# Altium schematic symbol library GAGHL_ALTIUM_LIBRARY_Schematic.SchLib: 27 symbols
Pins are listed as number, name and electrical type; pins without a type are passive.

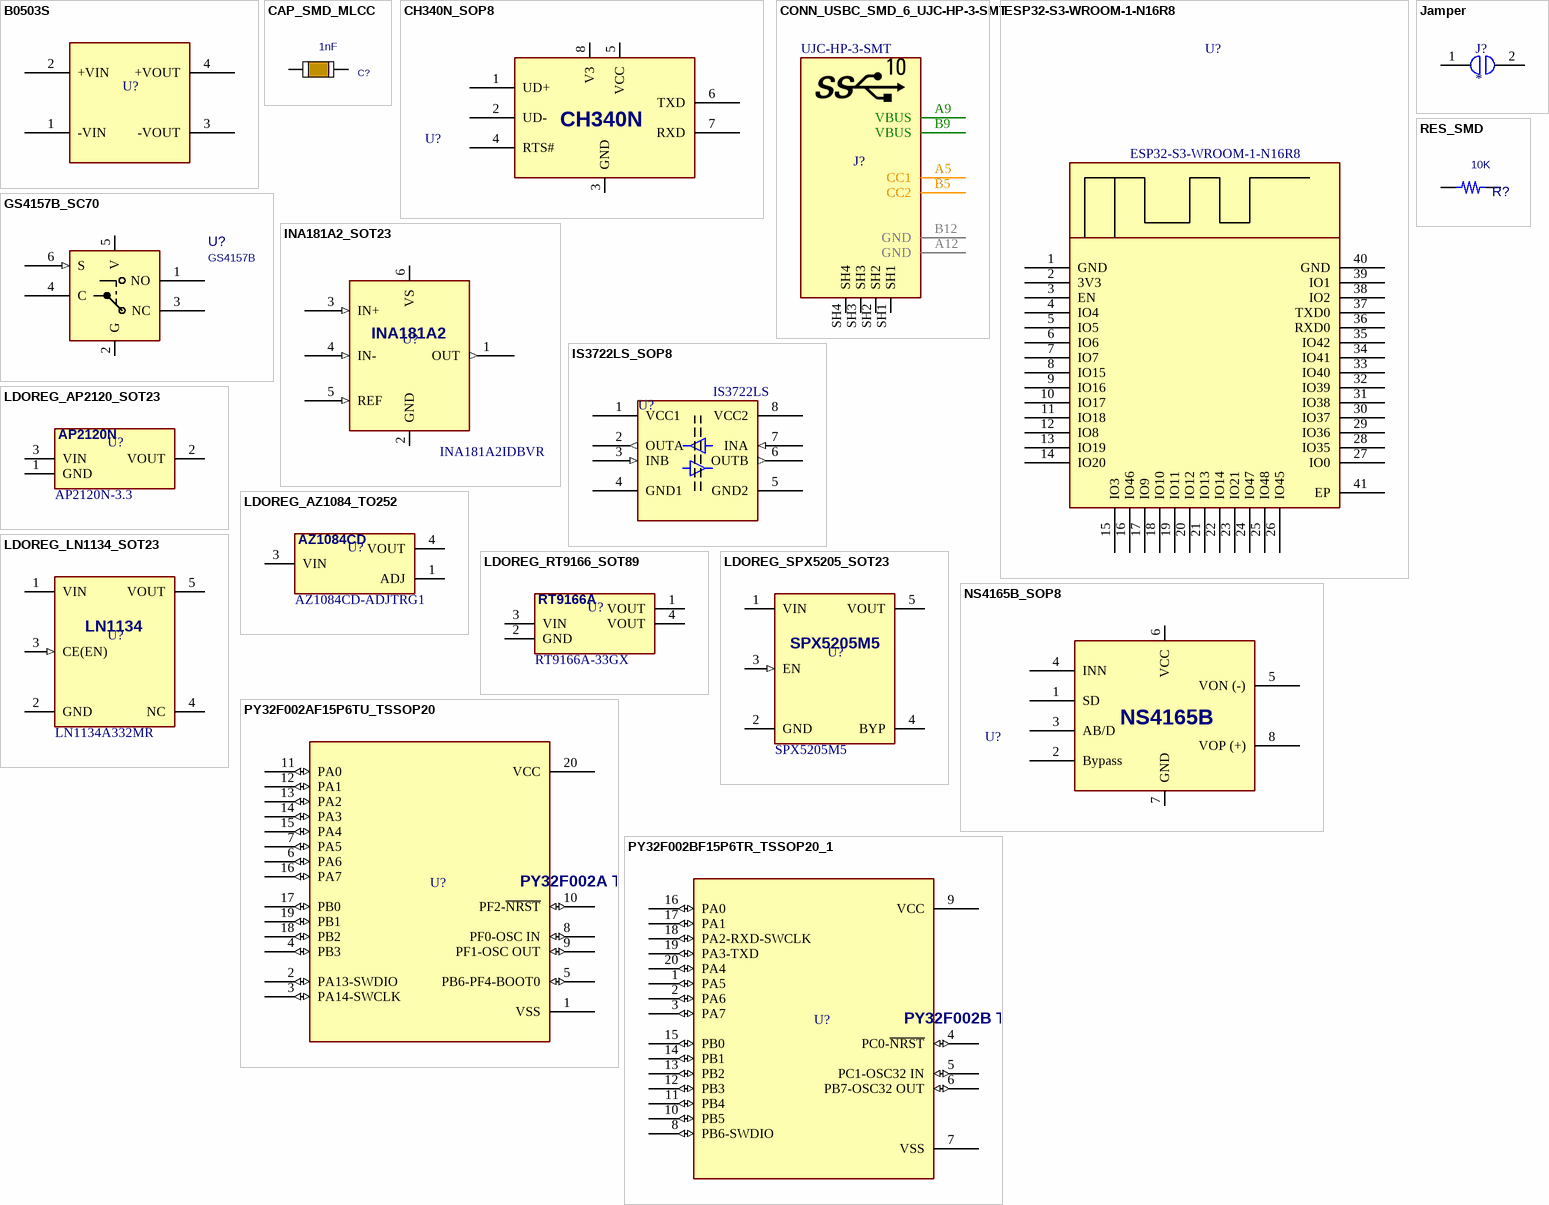
[diagram p0: symbols B0503S to RES_SMD]

## B0503S
designator U?  (value not drawn)
DC-DC Converter, Isolated, 1W; MANF: HI-LINK; MANF_P#: B0503S-1WR2; PARAM2: 4.5~5.5(5)Vin, 3.3Vout, 1W; PARAM: 303mA, -40~85°C; DESC: https://lionelectronic.ir/uploads/catalog/B0503S-1WR2-HI-LINK.pdf; VALUE: B0503S
footprint B0503S
pins: 1 -VIN, 2 +VIN, 3 -VOUT, 4 +VOUT

## CAP_SMD_MLCC
designator C?, comment 1nF
CAP, MLCC; PARAM2: 50V; DESC: CAP, MLCC, 1nF, 50V, C0G, 10%, 0402; MANF_P#: MANF_PART#; MANF: Murata; PARAM: C0G, 10%; ASSEMBLY: ASSEMBLY; PRICE: 100= 1$; VALUE: 1nF
footprint C0402 (CHIP Capacitor, 1.0X0.5mm, 0402)
footprint C0603 (CHIP Capacitor, 1.6X0.8mm, 0603)
footprint C0805 (CHIP Capacitor, 2.0X1.3mm, 0805)
footprint C1206 (CHIP Capacitor, 3.2X1.6mm, 1206)
footprint C1210 (CHIP Capacitor, 3.2X2.5mm, 1210, 3225)
footprint C0508 (CHIP Capacitor, 1.3X2.0mm, 0508)
footprint C1020 (CHIP Capacitor, 2.50x5.00mm)
footprint C1808 (CHIP Capacitor, 4.6X2.0mm, 1808, 1806, 4620, 4520)
footprint C1812 (Chip Capacitor, 4.5x3.2mm, 1612, 1812, 4532)
footprint C1825 (Chip Capacitor, 4.5x6.4mm, 1825, 4564)
footprint C2225 (Chip Capacitor, 5.6x6.4mm, 2225, 5664)
footprint C2512 (Chip Capacitor, 6.4x3.2mm, 2512, 6432)
footprint C0201 (CHIP Capacitor, 0.5x0.25mm, 0201)
footprint C0306 (CHIP Capacitor, 0.8X1.6mm)
footprint C0204 (CHIP Capacitor, 0.5X1.0mm)
footprint C2010 (Chip Capacitor, 5.0x2.5mm)
footprint C0603D (CHIP Capacitor, 1.6X0.8mm, 0603 , SMD (SolderMask Defined))
footprint C0805D (CHIP Capacitor, 2.0X1.3mm, 0805, SMD (SolderMask Defined))
pins: 1, 2

## CH340N_SOP8
designator U?, comment CH340N  (value not drawn)
USB-UART; MANF_P#: CH340N; VALUE: CH340N; PACKAGE: SOP-8
footprint SO_8 (SOP-8, 5x3.9mm body 1.27mm pitch, SOT96-1, M08A, S8, SOIC8, VO8, MS-012AA(JEDEC), R-8, 8S2, VOG8)
pins: 1 UD+, 2 UD-, 3 GND, 4 RTS#, 5 VCC, 6 TXD, 7 RXD, 8 V3

## CONN_USBC_SMD_6_UJC-HP-3-SMT
designator J?, comment UJC-HP-3-SMT
CONN, USB, Type C (USB 3.1), Right-Angle, SMD; MANF: CUI Devices; PARAM2: 20v; PARAM: Power Only, 3A; Price: 0.8$; MANF_P#: UJC-HP-3-SMT; Value: UJC-HP-3-SMT
footprint USBC_SMD_6_UJCHP3SMT (CONN, USB, Type C, UJC-HP-3-SMT, popular*)
pins: A5 CC1, A9 VBUS, A12 GND, B5 CC2, B9 VBUS, B12 GND, SH1, SH2, SH3, SH4

## ESP32-S3-WROOM-1-N16R8
designator U?
WiFi with Bluetooth 4.0; MANF_P#: ESP32-S3-WROOM-1-N16R8; VALUE: ESP32-S3-WROOM-1-N16R8
footprint ESP32-S3-WROOM-1-N16R2
pins: 1 GND, 2 3V3, 3 EN, 4 IO4, 5 IO5, 6 IO6, 7 IO7, 8 IO15, 9 IO16, 10 IO17, 11 IO18, 12 IO8, 13 IO19, 14 IO20, 15 IO3, 16 IO46, 17 IO9, 18 IO10, 19 IO11, 20 IO12, 21 IO13, 22 IO14, 23 IO21, 24 IO47, 25 IO48, 26 IO45, 27 IO0, 28 IO35, 29 IO36, 30 IO37, 31 IO38, 32 IO39, 33 IO40, 34 IO41, 35 IO42, 36 RXD0, 37 TXD0, 38 IO2, 39 IO1, 40 GND, 41 EP

## GS4157B_SC70
designator U?, comment GS4157B
IC, SWITCH, Analog, SPDT, SC-70-6; MANF: GainSil; PARAM2: 1.8~5.5V, 80MHz BW; PARAM: 0.8Ohm Ron, 28ns, -40~125C; MANF_P#: GS4157B; PRICE: 0.05$; PACKAGE: SC70-5; VALUE: GS4157B
footprint SOT363_6 (SOT-363, SC-70_6, BFS483, SC-88, MO-203AB, DSO65_6_200X130)
pins: 1 NO, 2 G, 3 NC, 4 C, 5 V, 6 S (in)

## INA181A2_SOT23
designator U?, comment INA181A2IDBVR
Current Sense Amplifiers 100uV 75uA SOT-23-6; MANF: Texas Instruments; PARAM: 100uV, 75uA, -40~145oC; PARAM2: x50; MANF_P#: INA181A2IDBVR; VALUE: INA181A2IDBVR
footprint SOT23_6 (SOT-23-6, DDC, DBV, MICRO6, SOT-26, SOT457, SuperSOT6, TSOP-6, HMC313, TSOT, 1.5x3mm, Pitch 0.65mm, CA531, MO-178AB, MO-193AA)
pins: 1 OUT (out), 2 GND (power), 3 IN+ (in), 4 IN- (in), 5 REF (in), 6 VS (power)
text: INA181A2

## IS3722LS_SOP8
designator U?, comment IS3722LS
Isolators, Dual, Low-Power, 150Mbps; MANF: Chipanalog; MANF_P#: CA-IS3722LS; PARAM2: 3.3/5VCC, 9ns Tpd, 300ps Skew; PARAM: 2.5KVrms Isolation, -40~105°C; PRICE: 3$; VALUE: IS3722LS
footprint SO_8
pins: 1 VCC1 (power), 2 OUTA (out), 3 INB (in), 4 GND1 (power), 5 GND2 (power), 6 OUTB (out), 7 INA (in), 8 VCC2 (power)

## Jamper
designator J?
footprint Jamper_30mil
footprint Jamper_40mil
footprint Jamper_50mil
footprint Jamper_ARROW
pins: 1, 2

## LDOREG_AP2120_SOT23
designator U?, comment AP2120N-3.3
High Speed, Extremely Low Noise LDO Regulator 3.3V 150mA; MANF: DIODE; MANF_P#: AP2120N-3.3TRG1; PARAM: 150mA, FIXED, -40~85oC; PARAM2: 6.5VIN; VALUE: AP2120N-3.3
footprint SOT23_3 (SOT-23, Micro3, MO-178, TO-236AB, MO-193C, SuperSOT3, SC-59, 1.5x3mm, Pitch 1.9mm)
pins: 1 GND, 2 VOUT, 3 VIN
text: AP2120N

## LDOREG_AZ1084_TO252
designator U?, comment AZ1084CD-ADJTRG1
Adjustable LDO Voltage Regulator 5A Current Limiting 6.5A and Thermal Protection; MANF: DIODE; MANF_P#: AP2120N-3.3TRG1; PARAM: 5A, ADJ, 0~150oC; PARAM2: 13.2VIN; VALUE: AZ1084CD-ADJTRG1
footprint DPAK_3 (D-PAK (TO-252), 3-Pads, Body 6.2x6.7mm)
pins: 1 ADJ, 3 VIN, 4 VOUT
text: AZ1084CD

## LDOREG_LN1134_SOT23
designator U?, comment LN1134A332MR
Fixed LDO Voltage Regulator 3.3V 300mA SOT-23-5; MANF: Natlinear; PARAM: 300mA, FIXED, -40~85oC; PARAM2: 2.5~8VIN; MANF_P#: LN1134A332MR; VALUE: LN1134A332MR
footprint SOT23_5 (SOT-23-5, SOT25, SOT-25, DBV(R-PDSO-G5), SOT753, TSOT23-5, SC-74A, SOT23-5, S5-T (LINEAR), MO-178AA, MO-193AB(JEDEC), MF05A (NS), TSOP-5(ON), UJ-5 (AD), 1.5x3mm, Pitch 0.65mm)
pins: 1 VIN, 2 GND, 3 CE(EN) (in), 4 NC, 5 VOUT
text: LN1134

## LDOREG_RT9166_SOT89
designator U?, comment RT9166A-33GX
Fixed LDO Voltage Regulator 3.3V 600mA SOT-89-3; MANF: RICHTEK; PARAM: 0.6A, FIXED, -40~85oC; PARAM2: 6.5VIN; MANF_P#: RT9166A-33GX; VALUE: RT9166A-33GX
footprint SOT89_3 (SOT89, SOT-89, SBF-4089, SOT89A, GALI, SC-62, DF782, TO-243AA(JEDEC), 1.5mm pitch)
pins: 1 VOUT, 2 GND, 3 VIN, 4 VOUT
text: RT9166A

## LDOREG_SPX5205_SOT23
designator U?, comment SPX5205M5
Fixed LDO Voltage Regulator 5V 150mA SOT-23-5; MANF: MAXLINEAR; MANF_P#: SPX5205M5-L-5-0; PARAM: 150mA, FIXED, -40~85oC; PARAM2: 2.5~16VIN; VALUE: SPX5205M5
footprint SOT23_5 (SOT-23-5, SOT25, SOT-25, DBV(R-PDSO-G5), SOT753, TSOT23-5, SC-74A, SOT23-5, S5-T (LINEAR), MO-178AA, MO-193AB(JEDEC), MF05A (NS), TSOP-5(ON), UJ-5 (AD), 1.5x3mm, Pitch 0.65mm)
pins: 1 VIN, 2 GND, 3 EN (in), 4 BYP, 5 VOUT

## NS4165B_SOP8
designator U?, comment NS4165B  (value not drawn)
5.4W Mono Class AB/D Dual-Mode Audio Power Amplifier, SOIC-8; MANF: Shenzhen Nsiway Tech; MANF_P#: NS4165B; VALUE: NS4165B; PACKAGE: SOP-8
footprint SO_8 (SOP-8, 5x3.9mm body 1.27mm pitch, SOT96-1, M08A, S8, SOIC8, VO8, MS-012AA(JEDEC), R-8, 8S2, VOG8)
pins: 1 SD, 2 Bypass, 3 AB/D, 4 INN, 5 VON (-), 6 VCC, 7 GND, 8 VOP (+)

## PY32F002AF15P6TU_TSSOP20
designator U?, comment PY32F002A  (value not drawn)
MCU, PYUA32 ARM 32-bit, Cortex-M0+, 20KB FLASH, 3KB SRAM; DESC: I2C, SPI, UART; MANF: PY; MANF_P#: PY32F002AF15P6TU; PARAM2: 2.4~3.6VCC, 48MHz, 1X12Bit ADC; PARAM: 20KB FLASH, 3KB SRAM, -40~85oC; PRICE: 1$; VALUE: PY32F002A; PACKAGE: TSSOP-20
footprint SOG65_20 (PW TSSOP (TI), MO-153-AC (JEDEC), 20Lead, pitch: 0.65mm, 6.5x4.4x1.2mm)
pins: 1 VSS (power), 2 PA13-SWDIO (io), 3 PA14-SWCLK (io), 4 PB3 (io), 5 PB6-PF4-BOOT0 (io), 6 PA6 (io), 7 PA5 (io), 8 PF0-OSC IN (io), 9 PF1-OSC OUT (io), 10 PF2-~{NRST} (io), 11 PA0 (io), 12 PA1 (io), 13 PA2 (io), 14 PA3 (io), 15 PA4 (io), 16 PA7 (io), 17 PB0 (io), 18 PB2 (io), 19 PB1 (io), 20 VCC (power)
text: PY32F002A TSSOP-20

## PY32F002BF15P6TR_TSSOP20_1
designator U?, comment PY32F002B  (value not drawn)
MCU, PYUA32 ARM 32-bit, Cortex-M0+, 20KB FLASH, 3KB SRAM; DESC: I2C, SPI, UART; MANF: PY; MANF_P#: PY32F002BF15P6TR; PARAM2: 2.4~3.6VCC, 48MHz, 1X12Bit ADC; PARAM: 20KB FLASH, 3KB SRAM, -40~85oC; PRICE: 1$; VALUE: PY32F002B; PACKAGE: TSSOP-20
footprint SOG65_20 (PW TSSOP (TI), MO-153-AC (JEDEC), 20Lead, pitch: 0.65mm, 6.5x4.4x1.2mm)
pins: 1 PA5 (io), 2 PA6 (io), 3 PA7 (io), 4 PC0-~{NRST} (io), 5 PC1-OSC32 IN (io), 6 PB7-OSC32 OUT (io), 7 VSS (power), 8 PB6-SWDIO (io), 9 VCC (power), 10 PB5 (io), 11 PB4 (io), 12 PB3 (io), 13 PB2 (io), 14 PB1 (io), 15 PB0 (io), 16 PA0 (io), 17 PA1 (io), 18 PA2-RXD-SWCLK (io), 19 PA3-TXD (io), 20 PA4 (io)
text: PY32F002B TSSOP-20

## RES_SMD
designator R?, comment 10K
RESISTOR, SMD; PARAM: -W; DESC: DESCRIPTION; DIST#: MOUSER; PARAM2: 1%; MANF_P#: -; MANF: -; ASSEMBLY: ASSEMBLY; PRICE: 100= 0.5$; VALUE: 10K
footprint R0402 (CHIP Resistor 1/16 WATT, 1.0X0.5mm, 0402, 1005)
footprint R0603 (CHIP Resistor 1/10 WATT, 1.6x0.8mm, 0603, 1608)
footprint R0805 (CHIP RESISTOR 1/8 WATT ,2.0X1.3mm, 0805, 2012)
footprint R1206 (CHIP RESISTOR 1/4 WATT, Body 3.2x1.6mm,1206, 3216)
footprint R2512 (CHIP RESISTOR 1 WATT, 6.4X3.2mm, 2512, 6432)
footprint R2010 (CHIP RESISTOR 3/4 WATT, 5.1x3mm, 2010, 5025)
footprint R1210 (CHIP RESISTOR 1/2 WATT, Body 3.2x2.5mm,1210, 3225)
footprint R0201 (CHIP Capacitor, 0.5x0.25mm, 0201)
pins: 1, 2

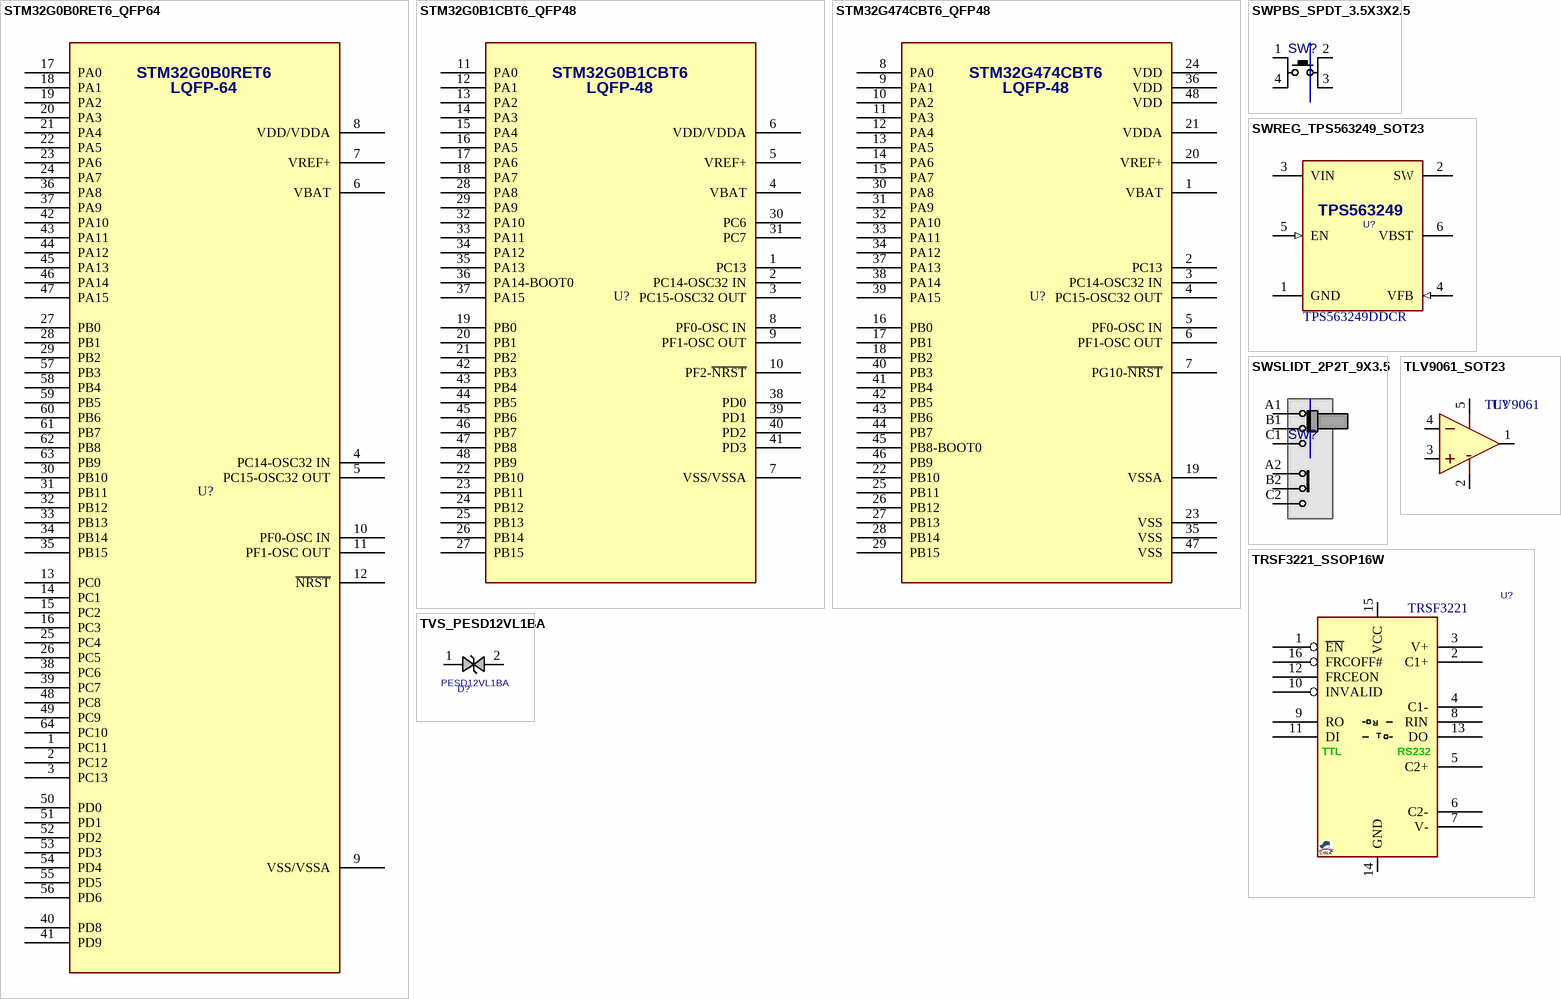
[diagram p1: symbols STM32G0B0RET6_QFP64 to TVS_PESD12VL1BA]

## STM32G0B0RET6_QFP64
designator U?, comment STM32G0B0RET6  (value not drawn)
MCU, STM32 ARM 32-bit, Cortex-M0+ 32bit MCU, 512KB Flash, 144KB RAM; DESC: USB, I2C, SPI, UART; MANF: ST; PARAM2: 1.7~3.6VCC, 64MHz, 5X12Bit ADC; PARAM: 512KB FLASH, 144KB SRAM, -40~85oC; Core: ARM Cortex M0+; MANF_P#: STM32G0B0RET6; PRICE: 2$; VALUE: STM32G0B0RET6; PACKAGE: LQFP-64; Series: STM32G0
footprint QFG50_64 (A64 (CYPRESS), TQFP64, LQFP64, VQ44, VQG44, 10X10mm, Pitch: 0.5mm)
pins: 1 PC11, 2 PC12, 3 PC13, 4 PC14-OSC32 IN, 5 PC15-OSC32 OUT, 6 VBAT, 7 VREF+, 8 VDD/VDDA, 9 VSS/VSSA, 10 PF0-OSC IN, 11 PF1-OSC OUT, 12 ~{NRST}, 13 PC0, 14 PC1, 15 PC2, 16 PC3, 17 PA0, 18 PA1, 19 PA2, 20 PA3, 21 PA4, 22 PA5, 23 PA6, 24 PA7, 25 PC4, 26 PC5, 27 PB0, 28 PB1, 29 PB2, 30 PB10, 31 PB11, 32 PB12, 33 PB13, 34 PB14, 35 PB15, 36 PA8, 37 PA9, 38 PC6, 39 PC7, 40 PD8, 41 PD9, 42 PA10, 43 PA11, 44 PA12, 45 PA13, 46 PA14, 47 PA15, 48 PC8, 49 PC9, 50 PD0, 51 PD1, 52 PD2, 53 PD3, 54 PD4, 55 PD5, 56 PD6, 57 PB3, 58 PB4, 59 PB5, 60 PB6, 61 PB7, 62 PB8, 63 PB9, 64 PC10

## STM32G0B1CBT6_QFP48
designator U?, comment STM32G0B1CBT6  (value not drawn)
MCU, STM32 ARM 32-bit, Cortex-M0+ 32bit MCU, 128KB Flash, 144KB RAM; DESC: USB, I2C, SPI, UART; MANF: ST; PARAM2: 1.7~3.6VCC, 64MHz, 5X12Bit ADC; PARAM: 128KB FLASH, 144KB SRAM, -40~85oC; Core: ARM Cortex M0+; MANF_P#: STM32G0B1CBT6; PRICE: 2$; VALUE: STM32G0B1CBT6; PACKAGE: LQFP-48; Series: STM32G0
footprint QFG50_48 (LQFP48, PQFF, PQFG, TSQFP, 48-Leads, Body 7.00x7.00mm, Pitch 0.50mm)
pins: 1 PC13, 2 PC14-OSC32 IN, 3 PC15-OSC32 OUT, 4 VBAT, 5 VREF+, 6 VDD/VDDA, 7 VSS/VSSA, 8 PF0-OSC IN, 9 PF1-OSC OUT, 10 PF2-~{NRST}, 11 PA0, 12 PA1, 13 PA2, 14 PA3, 15 PA4, 16 PA5, 17 PA6, 18 PA7, 19 PB0, 20 PB1, 21 PB2, 22 PB10, 23 PB11, 24 PB12, 25 PB13, 26 PB14, 27 PB15, 28 PA8, 29 PA9, 30 PC6, 31 PC7, 32 PA10, 33 PA11, 34 PA12, 35 PA13, 36 PA14-BOOT0, 37 PA15, 38 PD0, 39 PD1, 40 PD2, 41 PD3, 42 PB3, 43 PB4, 44 PB5, 45 PB6, 46 PB7, 47 PB8, 48 PB9

## STM32G474CBT6_QFP48
designator U?, comment STM32G474CBT6  (value not drawn)
MCU, STM32 ARM 32-bit, Cortex-M4 32bit MCU+FPU, 128KB Flash, 128KB RAM; DESC: USB, I2C, SPI, UART; MANF: ST; PARAM2: 1.7~3.6VCC, 170MHz, 5X12Bit ADC; PARAM: 128KB FLASH, 128KB SRAM, -40~85oC; Core: ARM Cortex M4; MANF_P#: STM32G474CBT6; PRICE: 2$; VALUE: STM32G474CBT6; PACKAGE: LQFP-48; Series: STM32G4
footprint QFG50_48 (LQFP48, PQFF, PQFG, TSQFP, 48-Leads, Body 7.00x7.00mm, Pitch 0.50mm)
pins: 1 VBAT, 2 PC13, 3 PC14-OSC32 IN, 4 PC15-OSC32 OUT, 5 PF0-OSC IN, 6 PF1-OSC OUT, 7 PG10-~{NRST}, 8 PA0, 9 PA1, 10 PA2, 11 PA3, 12 PA4, 13 PA5, 14 PA6, 15 PA7, 16 PB0, 17 PB1, 18 PB2, 19 VSSA, 20 VREF+, 21 VDDA, 22 PB10, 23 VSS, 24 VDD, 25 PB11, 26 PB12, 27 PB13, 28 PB14, 29 PB15, 30 PA8, 31 PA9, 32 PA10, 33 PA11, 34 PA12, 35 VSS, 36 VDD, 37 PA13, 38 PA14, 39 PA15, 40 PB3, 41 PB4, 42 PB5, 43 PB6, 44 PB7, 45 PB8-BOOT0, 46 PB9, 47 VSS, 48 VDD

## SWPBS_SPDT_3.5X3X2.5
designator SW?, comment PUSHBUTTON  (value not drawn)
SWITCH, PUSH BUTTON, TACTILE, SMD, SPDT, 3X3MM; MANF: ALPS; DESC: DESCRIPTION; MANF_P#: SKSGAAE010; VALUE: PUSHBUTTON; ASSEMBLY: ASSEMBLY; PARAM: PARAM; PRICE: 0.7$
footprint SWPBS_SPDT_3.5X3X2.5 (SWITCH, PUSHBUTTON, SMD, SPDT, 3.0x2.7mm, SKSG Series; Height 1.4 mm; 200,000 cycles; 4N force, SKSGAAE010)
pins: 1 P1, 2 P3, 3 P4, 4 P2

## SWREG_TPS563249_SOT23
designator U?, comment TPS563249DDCR
REG, Switching, Buck, 3A, ADJ, 1.4MHz, 4.5~17VIN, SOT-23-6; MANF: Texas Instruments; PARAM: 3A, ADJ, -40~125oC; DESC: ContinuousCurrent mode; MANF_P#: TPS563249DDCR; ASSEMBLY: ASSEMBLY; PARAM2: 1.4MHz, 4.5~17VIN; PRICE: 1.3$; PACKAGE: SOT-23-6; VALUE: TPS563249DDCR
footprint SOT23_6 (SOT-23-6, MICRO6, SOT-26, SOT457, SuperSOT6, TSOP-6, HMC313, MO-178AB, MO-193AA, TSOT)
pins: 1 GND, 2 SW, 3 VIN, 4 VFB (in), 5 EN (in), 6 VBST
text: TPS563249

## SWSLIDT_2P2T_9X3.5
designator SW?, comment MS22D16  (value not drawn)
SWITCH, SLIDE, DPDT, 9X3.5mm, THD; MANF_PART#: MS22D16-2P2T; MANF: China; DESC: DESCRIPTION; VALUE: MS22D16; ASSEMBLY: ASSEMBLY; PARAM: PARAM; PRICE: 1t@Javan
footprint 2P2T
pins: A1, A2, B1, B2, C1, C2

## TLV9061_SOT23
designator U?, comment TLV9061
Rail-to-rail I/O 1-Channel CMOS Op-Amp RRIO, with Unity gain stability made Easy for Stabilizing High Capacitive Loads SOT-23-5; MANF: Texas Instruments; MANF_P#: TLV9061IDBVR; PARAM2: 1.8V~5.5V, 10MHz BW; PARAM: 6.5v/us, -40~125°C; PRICE: 1.5$; VALUE: TLV9061
footprint SOT23_5 (SOT-23-5, SOT25, SOT-25, DBV(R-PDSO-G5), TSOT23-5, SC-74A, SOT23-5, S5-T (LINEAR), MO-178AA, MO-193AB(JEDEC), MF05A (NS), TSOP-6(ON), UJ-5 (AD))
pins: 1 OUT, 2 V-, 3 IN+, 4 IN-, 5 V+

## TRSF3221_SSOP16W
designator U?, comment TRSF3221
RS-232, SINGLE CH, +3~5V, Driver/Receiver,; MANF_PART#: TRSF3221EIPWR; MANF: Texas Instruments; PARAM2: +3~5.5V; PARAM: PARAM; VALUE: TRSF3221
footprint SOG65_16_W (SSOP16, SOT338-1, SOT403-1, RU-16, pitch: 0.65mm, 5x5.3mm, GN16, MO-150AC)
pins: 1 ~{EN}, 2 C1+, 3 V+, 4 C1-, 5 C2+, 6 C2-, 7 V-, 8 RIN, 9 RO, 10 INVALID, 11 DI, 12 FRCEON, 13 DO, 14 GND (power), 15 VCC (power), 16 FRCOFF#
text: R; T; TTL; RS232

## TVS_PESD12VL1BA
designator D?, comment PESD12VL1BA
TVS, ESD PROTECT, Bidirectional; MANF: Nexperia; PARAM2: 12VR; PARAM: -65~150°C; MANF_P#: PESD12VL1BA; VALUE: PESD12VL1BA
footprint D_SOD323 (DIODE0805, SOD-323, SC-76, DL-35, 0805 similar size)
pins: 1, 2